# EAGLE library part LAN8710AI-EZK (library circuit_tree)
IC
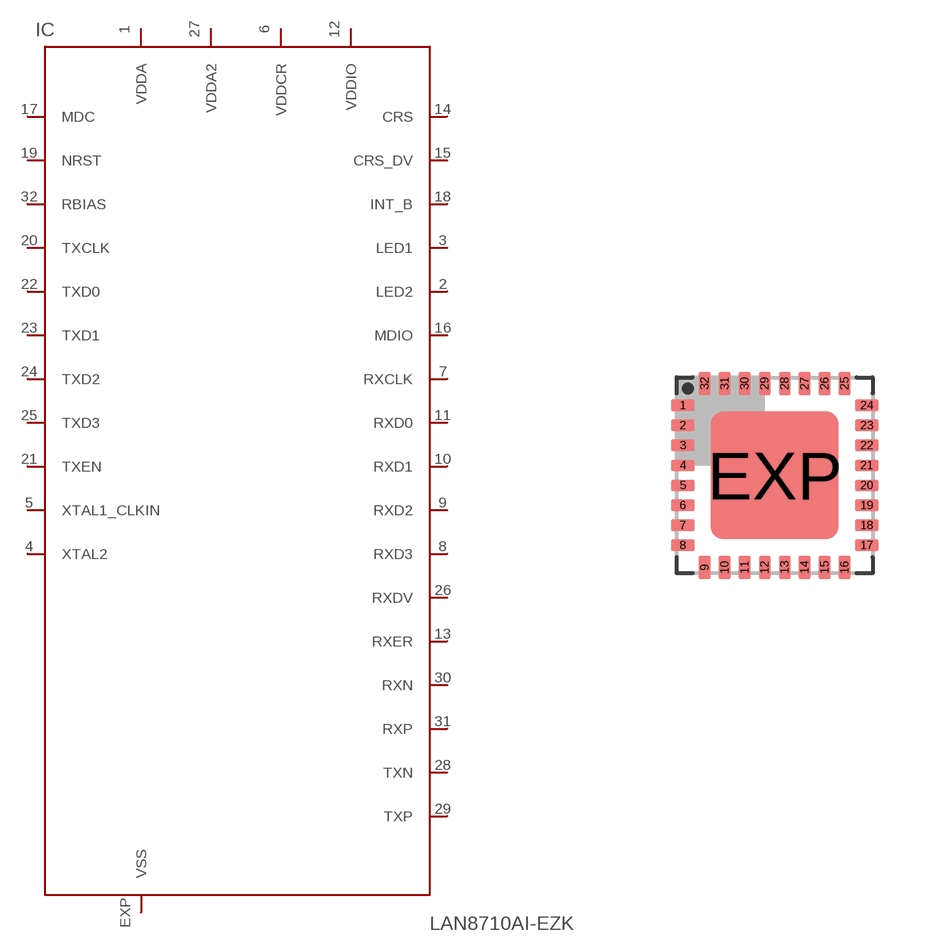
[diagram p5: symbol with the pads of QFN-32; footprint QFN-32]

Designator prefix IC

## LAN8710AI-EZK  [QFN-32]
1  VDDA  pas
2  LED2  pas
3  LED1  pas
4  XTAL2  pas
5  XTAL1_CLKIN  pas
6  VDDCR  pas
7  RXCLK  pas
8  RXD3  pas
9  RXD2  pas
10  RXD1  pas
11  RXD0  pas
12  VDDIO  pas
13  RXER  pas
14  CRS  pas
15  CRS_DV  pas
16  MDIO  pas
17  MDC  pas
18  INT_B  pas
19  NRST  pas
20  TXCLK  pas
21  TXEN  pas
22  TXD0  pas
23  TXD1  pas
24  TXD2  pas
25  TXD3  pas
26  RXDV  pas
27  VDDA2  pas
28  TXN  pas
29  TXP  pas
30  RXN  pas
31  RXP  pas
32  RBIAS  pas
EXP  VSS  pas

## Footprint QFN-32 (pad centres in mm)
smd 0.6 x 0.3: 1 -2.3,1.75; 2 -2.3,1.25; 3 -2.3,0.75; 4 -2.3,0.25; 5 -2.3,-0.25; 6 -2.3,-0.75; 7 -2.3,-1.25; 8 -2.3,-1.75; 17 2.3,-1.75; 18 2.3,-1.25; 19 2.3,-0.75; 20 2.3,-0.25; 21 2.3,0.25; 22 2.3,0.75; 23 2.3,1.25; 24 2.3,1.75
smd 0.3 x 0.6: 9 -1.75,-2.3; 10 -1.25,-2.3; 11 -0.75,-2.3; 12 -0.25,-2.3; 13 0.25,-2.3; 14 0.75,-2.3; 15 1.25,-2.3; 16 1.75,-2.3; 25 1.75,2.3; 26 1.25,2.3; 27 0.75,2.3; 28 0.25,2.3; 29 -0.25,2.3; 30 -0.75,2.3; 31 -1.25,2.3; 32 -1.75,2.3
smd 3.2 x 3.2: EXP 0,0